# Altium schematic symbol library L826-1X1T-43-F.SchLib: 1 symbol
Pins are listed as number, name and electrical type; pins without a type are passive.

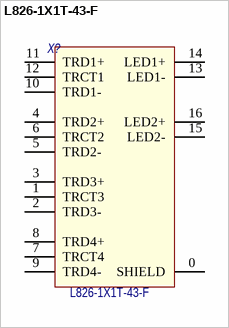
[diagram p0: symbol L826-1X1T-43-F]

## L826-1X1T-43-F
designator X?
1000BASE-T RJ45 with Magnetic; Потребление, Вт: 0.0; Назначение: 1000BASE-T RJ45 with Magnetic; Наименование: L826-1X1T-43-F
footprint L826-1X1T-43-F (1000BASE-T RJ45 with Magnetic)
footprint LPJK0036 (1000BASE-T RJ45 with Magnetic)
pins: 0 SHIELD, 1 TRCT3, 2 TRD3-, 3 TRD3+, 4 TRD2+, 5 TRD2-, 6 TRCT2, 7 TRCT4, 8 TRD4+, 9 TRD4-, 10 TRD1-, 11 TRD1+, 12 TRCT1, 13 LED1-, 14 LED1+, 15 LED2-, 16 LED2+